# Altium schematic symbol library MISC.SchLib: 8 symbols
Pins are listed as number, name and electrical type; pins without a type are passive.

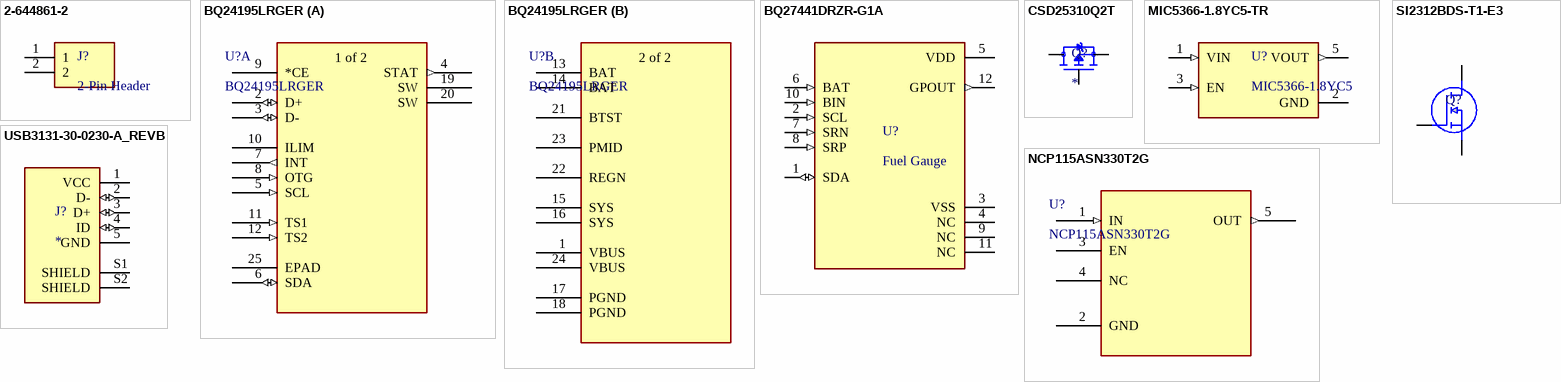
[diagram p0: symbols 2-644861-2 to USB3131-30-0230-A_REVB]

## 2-644861-2
designator J?, comment 2-Pin Header
02P MTA100 SHRD HDR,W/O PEG SN; Number_of_Positions: 2; Centerline_Pitch: 2.54 mm[.1 in]; MP: 2-644861-2; Product_Type: Connector; MF: TE Connectivity; Value: *; SnapEDA_Link: https://www.snapeda.com/parts/2-644861-2/TE+Connectivity+AMP+Connectors/view-part/?ref=snap; Package: None; Check_prices: https://www.snapeda.com/parts/2-644861-2/TE+Connectivity+AMP+Connectors/view-part/?ref=eda; Digi-Key_Part_Number: A30931-ND; Purchase-URL: https://pricing.snapeda.com/search/part/2-644861-2/?ref=eda
footprint TE_2-644861-2
pins: 1, 2

## BQ24195LRGER
designator U?
IC BATT CHG LI-ION 1CELL 24VQFN; Mfr_Name: Texas Instruments; Copyright: Copyright (C) 2023 Ultra Librarian. All rights reserved.; Manufacturer_Part_Number: BQ24195LRGER; Digi-Key_Part_Number_1: 2156-BQ24195LRGER-ND; Digi-Key_Part_Number_2: 296-49149-1-ND; Digi-Key_Part_Number_3: 296-49149-2-ND; Digi-Key_Part_Number_4: 296-49149-6-ND; Digi-Key_Part_Number_5: BQ24195LRGER-ND; RefDes: RefDes; Type: DEV
footprint RGE24_2P7X2P7_TEX
part A pins: 2 D+ (io), 3 D- (io), 4 STAT (out), 5 SCL (in), 6 SDA (io), 7 INT (out), 8 OTG (in), 9 *CE, 10 ILIM, 11 TS1 (in), 12 TS2 (in), 19 SW, 20 SW, 25 EPAD
part B pins: 1 VBUS (power), 13 BAT (power), 14 BAT (power), 15 SYS (power), 16 SYS (power), 17 PGND, 18 PGND, 21 BTST (power), 22 REGN (power), 23 PMID (power), 24 VBUS (power)
part A text: 1 of 2
part B text: 2 of 2

## BQ27441DRZR-G1A
designator U?, comment Fuel Gauge
System-side Impedance Track battery fuel (gas) gauge 12-SON -40 to 85; MP: BQ27441DRZR-G1A; MF: Texas Instruments; Value: *; SnapEDA_Link: https://www.snapeda.com/parts/BQ27441DRZR-G1A/Texas%20Instruments/view-part/331244/?ref=snap; Package: VSON-12 Texas Instruments; Check_prices: https://www.snapeda.com/parts/BQ27441DRZR-G1A/Texas%20Instruments/view-part/331244/?ref=eda; Digi-Key_Part_Number: 296-39941-1-ND; Purchase-URL: https://pricing.snapeda.com/search/part/BQ27441DRZR-G1A/?ref=eda
footprint IC_BQ27441DRZR-G1A
pins: 1 SDA (io), 2 SCL (in), 3 VSS (power), 4 NC (power), 5 VDD (power), 6 BAT (in), 7 SRN (in), 8 SRP (in), 9 NC (power), 10 BIN (in), 11 NC (power), 12 GPOUT (out)

## CSD25310Q2T
designator Q?
-20V, P ch NexFET MOSFET, single SON 2x2, 23.9mOhm 6-WSON -55 to 150; MF: Texas Instruments; MP: CSD25310Q2T; Digi-Key_Part_Number: 296-50290-2-ND; Value: *; Package: WSON-6 Texas Instruments; Purchase-URL: https://pricing.snapeda.com/search/part/CSD25310Q2T/?ref=eda; Check_prices: https://www.snapeda.com/parts/CSD25310Q2T/Texas+Instruments/view-part/?ref=eda; SnapEDA_Link: https://www.snapeda.com/parts/CSD25310Q2T/Texas+Instruments/view-part/?ref=snap
footprint TRANS_CSD25310Q2T
pins: 1 S, 2 S, 3 G, 4 D, 5 S, 6 S, 7 S, 8 D

## MIC5366-1.8YC5-TR
designator U?, comment MIC5366-1.8YC5
Linear Voltage Regulator IC Positive Fixed 1 Output 150mA SC-70-5; MP: MIC5366-1.8YC5-TR; MF: Microchip; SnapEDA_Link: https://www.snapeda.com/parts/MIC5366-1.8YC5-TR/Microchip/view-part/?ref=snap; Package: SC-70-5 Microchip; Check_prices: https://www.snapeda.com/parts/MIC5366-1.8YC5-TR/Microchip/view-part/?ref=eda; Purchase-URL: https://pricing.snapeda.com/search/part/MIC5366-1.8YC5-TR/?ref=eda; Digi-Key_Part_Number: 576-3203-2-ND; Value: *
footprint SOT65P210X110-5N
pins: 1 VIN (in), 2 GND, 3 EN (in), 5 VOUT (out)

## NCP115ASN330T2G
designator U?
Linear Voltage Regulator IC Positive Fixed 1 Output 300mA 5-TSOP; Mfr_Name: onsemi; Copyright: Copyright (C) 2022 Ultra Librarian. All rights reserved.; Manufacturer_Part_Number: NCP115ASN330T2G; Digi-Key_Part_Number_1: NCP115ASN330T2GOSTR-ND; Digi-Key_Part_Number_2: NCP115ASN330T2GOSCT-ND; Digi-Key_Part_Number_3: NCP115ASN330T2GOSDKR-ND; Digi-Key_Part_Number_4: 2156-NCP115ASN330T2G-OS-ND; RefDes: RefDes; Type: DEV
footprint TSOP-5-483-N_ONS
pins: 1 IN (in), 2 GND, 3 EN, 4 NC, 5 OUT (out)

## SI2312BDS-T1-E3
designator Q?
N-Channel 20 V (D-S) MOSFET; Manufacturer_Name: Vishay; Geometry.Height: 1.12mm; Mouser Part Number: 781-SI2312BDS-E3; Mouser Price/Stock: https://www.mouser.co.uk/ProductDetail/Vishay-Semiconductors/SI2312BDS-T1-E3?qs=jcx%252B0HVgj2b3YhM4OoQ%252BrQ%3D%3D; Manufacturer_Part_Number: SI2312BDS-T1-E3; Datasheet Link: http://www.vishay.com/docs/73235/si2312bds.pdf
footprint SOT95P237X112-3N
pins: 1 G, 2 S, 3 D

## USB3131-30-0230-A_REVB
designator J?
USB - micro B USB 2.0 Receptacle Connector 5 Position Through Hole; MP: USB3131-30-0230-A_REVB; Availability: Unavailable; Value: *; Package: None; Price: None
footprint GCT_USB3131-30-0230-A_REVB
pins: 1 VCC (power), 2 D- (io), 3 D+ (io), 4 ID (io), 5 GND, S1 SHIELD, S2 SHIELD